# Altium footprint library My Library.PcbLib: 161 footprints (part 10 of 11)
Each footprint in its own frame and in the unit in brackets; x right, y up, seen from the top. Pads: shape width x height; smd on the part's side, far side on the other; paste and mask are expansions set on the pad; w line width, h text height; cw(c..) or ccw(c..) is an arc to the next point about the centre after c.
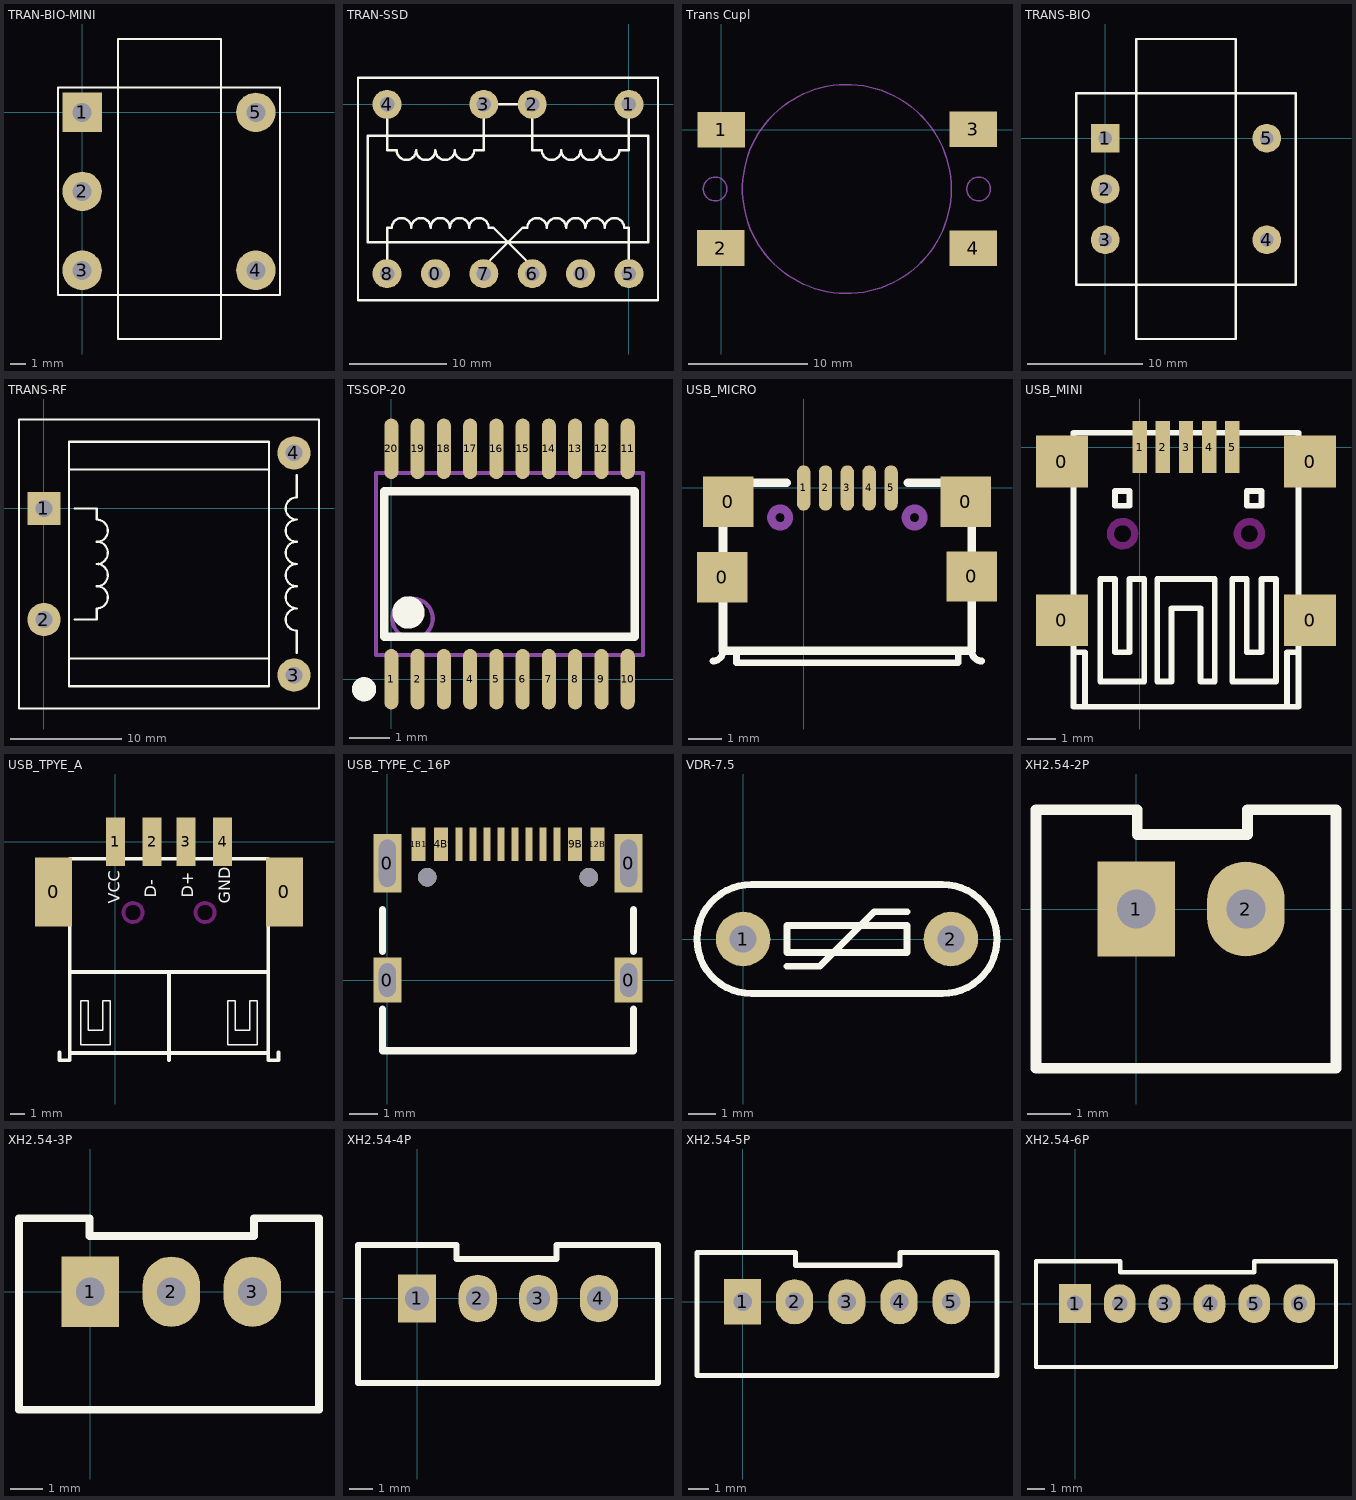
[diagram p9: the footprints below, top view; thin cyan lines are the x and y axes]

## TRAN-BIO-MINI [mm]
height 10
pads (5):
  rect 2.5x2.5 hole 1.2: 1(0,0)
  round 2.5 hole 1.2: 2(0,-5) 3(0,-10) 4(11,-10) 5(11,0)
Top Overlay:
  lines w0.127: -1.525,-11.55 -1.525,1.575 12.525,1.575 12.525,-11.55 -1.525,-11.55 ; 2.275,-14.35 2.275,4.65 8.8,4.65 8.8,-14.35 2.275,-14.35

## TRAN-SSD [mm]
pads (10):
  round 3 hole 1.5: 0(-20,-17.5) 0(-5,-17.5) 1(0,0) 2(-10,0) 3(-15,0) 4(-25,0) 5(0,-17.5) 6(-10,-17.5) 7(-15,-17.5) 8(-25,-17.5)
Top Overlay:
  lines w0.254: -25,-16.75 -25,-12.75 -24.5,-12.75 cw(c-23.5,-12.75) -22.5,-12.75 cw(c-21.5,-12.75) -20.5,-12.75 cw(c-19.5,-12.75) -18.5,-12.75 cw(c-17.5,-12.75) -16.5,-12.75 cw(c-15.5,-12.75) -14.5,-12.75 -14,-12.75 -10,-16.75 ; -25,-0.75 -25,-4.75 -24,-4.75 ccw(c-23,-4.75) -22,-4.75 ccw(c-21,-4.75) -20,-4.75 ccw(c-19,-4.75) -18,-4.75 ccw(c-17,-4.75) -16,-4.75 -15,-4.75 -15,-0.75 ; -15,-16.75 -11,-12.75 -10.5,-12.75 cw(c-9.5,-12.75) -8.5,-12.75 cw(c-7.5,-12.75) -6.5,-12.75 cw(c-5.5,-12.75) -4.5,-12.75 cw(c-3.5,-12.75) -2.5,-12.75 cw(c-1.5,-12.75) -0.5,-12.75 0,-12.75 0,-16.75 ; -14.25,0 -10.75,0 ; -10,-0.75 -10,-4.75 -9,-4.75 ccw(c-8,-4.75) -7,-4.75 ccw(c-6,-4.75) -5,-4.75 ccw(c-4,-4.75) -3,-4.75 ccw(c-2,-4.75) -1,-4.75 0,-4.75 0,-0.75 ; -28,-20.25 3,-20.25 3,2.75 -28,2.75 -28,-20.25 ; -27,-14.25 2,-14.25 2,-3.25 -27,-3.25 -27,-14.25

## Trans Cupl [mm]
pads (4):
  rect 4x3 smd: 1(0,0) 2(-0.05,-9.975) 3(21.225,0.025) 4(21.225,-10)
Mechanical 1:
  circle w0.127: c10.575,-5 r8.8
  circle w0.127: c21.675,-5 r1
  circle w0.127: c-0.525,-5 r1

## TRANS-BIO [mm]
height 30
pads (5):
  rect 2.5x2.5 hole 1.2: 1(0,0)
  round 2.5 hole 1.2: 2(0,-4.4) 3(0,-8.8) 4(14,-8.8) 5(14,0)
Top Overlay:
  lines w0.2: -2.5,-12.7 -2.5,3.9 16.5,3.9 16.5,-12.7 -2.5,-12.7 ; 2.7,-17.4 2.7,8.6 11.3,8.6 11.3,-17.4 2.7,-17.4

## TRANS-RF [mm]
height 10
pads (4):
  rect 3x3 hole 1.5: 1(0,0)
  round 3 hole 1.5: 2(0,-10) 3(22.5,-15) 4(22.5,5)
Top Overlay:
  lines w0.2: 2.25,-13.5 20.25,-13.5 ; 2.25,3.5 20.25,3.5 ; 2.75,-10 4.75,-10 4.75,-9 ccw(c4.75,-8) 4.75,-7 ccw(c4.75,-6) 4.75,-5 ccw(c4.75,-4) 4.75,-3 ccw(c4.75,-2) 4.75,-1 4.75,0 2.75,0 ; 22.75,-13 22.75,-11 cw(c22.75,-10) 22.75,-9 cw(c22.75,-8) 22.75,-7 cw(c22.75,-6) 22.75,-5 cw(c22.75,-4) 22.75,-3 cw(c22.75,-2) 22.75,-1 cw(c22.75,0) 22.75,1 22.75,3 ; -2.25,-18 24.75,-18 24.75,8 -2.25,8 -2.25,-18 ; 2.25,-16 2.25,6 20.25,6 20.25,-16 2.25,-16

## TSSOP-20 [mm]
height 1
pads (20):
  oval 0.35x1.5 smd: 1(0,0) 2(0.65,0) 3(1.3,0) 4(1.95,0) 5(2.6,0) 6(3.25,0) 7(3.9,0) 8(4.55,0) 9(5.2,0) 10(5.85,0) 11(5.85,5.7) 12(5.2,5.7) 13(4.55,5.7) 14(3.9,5.7) 15(3.25,5.7) 16(2.6,5.7) 17(1.95,5.7) 18(1.3,5.7) 19(0.65,5.7) 20(0,5.7)
Top Overlay:
  circle w0.3: c-0.675,-0.25 r0.15
  circle w0.4: c0.425,1.65 r0.2
  lines w0.2: -0.175,1.05 -0.175,4.65 6.025,4.65 6.025,1.05 -0.175,1.05
Mechanical 13:
  circle w0.1: c0.525,1.5 r0.5
  lines w0.1: -0.375,0.6 -0.375,5.1 6.225,5.1 6.225,0.6 -0.375,0.6
3D body: height 1, standoff 0, extent -0.375,0.55 6.225,5.15

## USB_MICRO [mm]
height 3
pads (9):
  rect 1.5x1.5 smd: 0(-2.423,-2.659) 0(-2.248,-0.409) 0(4.827,-0.409) 0(5.002,-2.634)
  oval 0.4x1.35 smd: 1(0,0) 2(0.65,0) 3(1.3,0) 4(1.95,0) 5(2.6,0)
Top Overlay:
  lines w0.2: -2.7,-5.15 ccw(c-2.7,-4.85) -2.4,-4.85 ; -2,-4.85 -2,-5.2 4.6,-5.2 4.6,-4.85 ; 5,-4.85 ccw(c5.3,-4.85) 5.3,-5.15
  lines w0.254: -0.5,0.15 -2.4,0.15 -2.4,-4.85 5,-4.85 5,0.15 3.1,0.15
Mechanical 1:
  circle w0.254: c3.3,-0.88 r0.26
  circle w0.254: c-0.7,-0.88 r0.26

## USB_MINI [mm]
height 5
pads (9):
  rect 1.8x1.8 smd: 0(-2.7,-6) 0(-2.7,-0.5) 0(5.9,-6) 0(5.9,-0.5)
  rect 0.5x1.8 smd: 1(0,0) 2(0.8,0) 3(1.6,0) 4(2.4,0) 5(3.2,0)
Top Overlay:
  lines w0.2: -2.3,-7.112 -1.9,-7.112 -1.9,-9 ; 5.1,-9 5.1,-7.112 5.5,-7.112 ; -2.3,-9 -2.3,0.5 5.5,0.5 5.5,-9 -2.3,-9 ; -1.372,-8.128 0.152,-8.128 0.152,-4.572 -0.356,-4.572 -0.356,-7.112 -0.864,-7.112 -0.864,-4.572 -1.372,-4.572 -1.372,-8.128 ; -0.864,-2.032 -0.864,-1.524 -0.356,-1.524 -0.356,-2.032 -0.864,-2.032 ; 0.6,-8.128 0.6,-4.572 2.6,-4.572 2.6,-8.128 2.1,-8.128 2.1,-5.588 1.1,-5.588 1.1,-8.128 0.6,-8.128 ; 3.2,-8.128 4.724,-8.128 4.724,-4.572 4.216,-4.572 4.216,-7.112 3.708,-7.112 3.708,-4.572 3.2,-4.572 3.2,-8.128 ; 3.708,-2.032 3.708,-1.524 4.216,-1.524 4.216,-2.032 3.708,-2.032
Keep-Out Layer:
  circle w0.254: c3.8,-3 r0.42
  circle w0.254: c-0.6,-3 r0.42

## USB_TPYE_A [mm]
height 7
pads (6):
  rect 2.5x4.7 smd: 0(-4.2,-3.4) 0(11.5,-3.4)
  rect 1.3x3.3 smd: 1(0,0) 2(2.5,0) 3(4.8,0) 4(7.3,0)
Top Overlay:
  lines w0.1: -2.35,-13.8 -1.85,-13.8 -0.35,-13.8 -0.35,-10.8 -0.85,-10.8 -0.85,-12.8 -1.85,-12.8 -1.85,-10.8 -2.35,-10.8 -2.35,-13.8 ; 7.65,-13.8 8.15,-13.8 9.65,-13.8 9.65,-10.8 9.15,-10.8 9.15,-12.8 8.15,-12.8 8.15,-10.8 7.65,-10.8 7.65,-13.8
  lines w0.254: -3.8,-14.3 -3.8,-14.85 -3.1,-14.85 -3.1,-1.15 10.4,-1.15 10.4,-14.85 11.1,-14.85 11.1,-14.3 ; -3.1,-14.35 10.4,-14.35 ; -3.1,-8.85 10.4,-8.85 ; 3.65,-14.85 3.65,-8.85
  text "D+" at 5.3,-3.8 h0.8
  text "D-" at 2.8,-3.8 h0.8
  text "GND" at 7.8,-4.2 h0.8
  text "VCC" at 0.3,-4.2 h0.8
Keep-Out Layer:
  circle w0.254: c1.2,-4.8 r0.65
  circle w0.254: c6.1,-4.8 r0.65

## USB_TYPE_C_16P [mil]
height 157.48
pads (16):
  rect 39.4x63 hole 23.62 slot 47.22 at 90 deg copper offset -0.02,0.01: 0(0,0)
  rect 39.4x82.7 hole 23.62 slot 66.92 at 90 deg copper offset -0.02,-0.02: 0(0,164.56)
  rect 39.4x63 hole 23.62 slot 47.22 at 90 deg copper offset 0.01,0.01: 0(340.16,0)
  rect 39.4x82.7 hole 23.62 slot 66.92 at 90 deg copper offset 0.01,-0.02: 0(340.16,164.56)
  rect 19.7x47.2 smd: A1B12(44.1,191.73) A4B9(75.59,191.73) A9B4(264.57,191.73) A12B1(296.07,191.73)
  rect 9.9x47.2 smd: A5(120.87,191.73) A8(219.3,191.73) B5(238.98,191.73) B8(101.18,191.73)
  rect 9.8x47.2 smd: A6(160.24,191.73) A7(179.92,191.73) B6(199.61,191.73) B7(140.55,191.73)
via 56.3,144.88 diameter 25.6 hole 25.6
via 283.86,144.88 diameter 25.6 hole 25.6
Top Overlay:
  lines w10: -7.06,-40.57 -7.06,-99.57 347.24,-99.57 347.24,-40.57 ; -7.06,40.53 -7.06,99.63 ; 347.24,40.53 347.24,99.63

## VDR-7.5 [mm]
height 10
pads (2):
  round 2 hole 1: 1(0,0) 2(7.62,0)
Top Overlay:
  lines w0.254: 1.61,-1 2.81,-1 4.81,1 6.01,1 ; 0.31,-2 cw(c0.31,0) 0.31,2 7.31,2 cw(c7.31,0) 7.31,-2 0.31,-2 ; 1.61,-0.5 6.01,-0.5 6.01,0.5 1.61,0.5 1.61,-0.5

## XH2.54-2P [mm]
height 5
pads (2):
  rect 1.8x2.2 hole 0.9: 1(0,0)
  oval 1.8x2.2 hole 0.9: 2(2.54,0)
Top Overlay:
  lines w0.25: -2.322,2.302 -2.322,-3.688 4.628,-3.688 ; -2.3,2.3 0.025,2.3 0.025,1.725 2.575,1.725 2.575,2.3 4.625,2.3 ; 4.626,-3.69 4.628,2.292

## XH2.54-3P [mm]
height 5
pads (3):
  rect 1.8x2.2 hole 0.9: 1(0,0)
  oval 1.8x2.2 hole 0.9: 2(2.54,0) 3(5.08,0)
Top Overlay:
  lines w0.25: -2.234,2.3 -2.234,-3.7 7.166,-3.7 7.166,2.3 ; -2.225,2.3 -0.025,2.3 -0.025,1.75 5.125,1.75 5.125,2.3 7.15,2.3

## XH2.54-4P [mm]
height 5
pads (4):
  rect 1.6x2 hole 1: 1(0,0)
  oval 1.6x2 hole 1: 2(2.54,0) 3(5.08,0) 4(7.62,0)
Top Overlay:
  lines w0.25: 1.65,2.232 1.65,1.65 5.85,1.65 5.85,2.232 ; 1.65,2.25 -2.48,2.25 -2.48,-3.55 10.1,-3.55 10.1,2.25 5.85,2.25

## XH2.54-5P [mm]
height 5
pads (5):
  rect 1.8x2.2 hole 0.9: 1(0,0)
  oval 1.8x2.2 hole 0.9: 2(2.53,0) 3(5.07,0) 4(7.61,0) 5(10.15,0)
Top Overlay:
  lines w0.25: -2.214,-3.59 12.375,-3.59 12.375,2.4 7.65,2.4 7.65,1.775 2.575,1.775 2.575,2.4 -2.2,2.4 -2.214,2.386 -2.214,-3.59
3D body: height 5, standoff 0, extent -2.225,-3.6 12.375,2.4

## XH2.54-6P [mm]
height 5
pads (6):
  rect 1.8x2.2 hole 0.9: 1(0,0)
  oval 1.8x2.2 hole 0.9: 2(2.53,0) 3(5.07,0) 4(7.61,0) 5(10.15,0) 6(12.69,0)
Top Overlay:
  lines w0.25: -2.214,2.41 -2.214,-3.59 14.775,-3.59 14.775,2.4 10.15,2.4 10.15,1.775 2.55,1.775 2.55,2.4 -2.2,2.4
3D body: height 10, standoff 0, extent -2.175,-3.575 14.775,2.25